# EAGLE library part PIXHAWK2_74LVC2G240 (library PX4FMUv2.4)
Dual inverter tri-state, 3.3V/5V compatible http://www.nxp.com/documents/data_sheet/74LVC2G240.pdf http://focus.ti.com/lit/ds/symlink/sn74lvc2g240.pdf
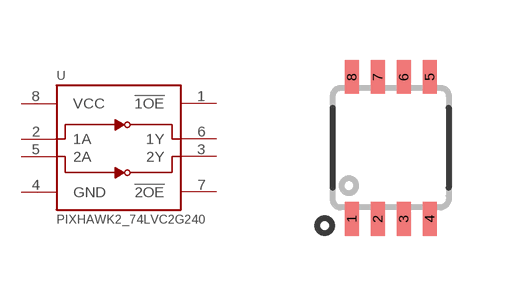
[diagram p3: symbol with the pads of PIXHAWK2_TSSOP8_SOT505-2; footprint PIXHAWK2_TSSOP8_SOT505-2]

Designator prefix -

## PIXHAWK2_74LVC2G240-TSSOP-8  [PIXHAWK2_TSSOP8_SOT505-2]
1  !1OE  in
2  1A
3  2Y
4  GND  sup
5  2A
6  1Y
7  !2OE  in
8  VCC  sup

## Footprint PIXHAWK2_TSSOP8_SOT505-2 (pad centres in mm)
smd 0.35 x 0.85: 1 -0.975,-1.775; 2 -0.325,-1.775; 3 0.325,-1.775; 4 0.975,-1.775; 5 0.975,1.775; 6 0.325,1.775; 7 -0.325,1.775; 8 -0.975,1.775